# EAGLE library part JST_PH_7 (library stepOSP)
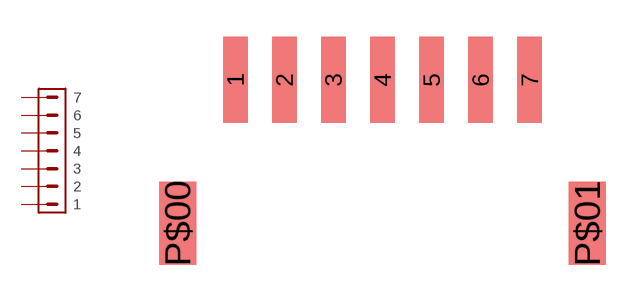
[diagram p20: symbol with the pads of PH_CON_7; footprint PH_CON_7]

Designator prefix -

## JST_PH_7  [PH_CON_7]
1  1
2  2
3  3
4  4
5  5
6  6
7  7

## Footprint PH_CON_7 (pad centres in mm)
smd 1 x 3.5: 1 -6,7.45; 2 -4,7.45; 3 -2,7.45; 4 0,7.45; 5 2,7.45; 6 4,7.45; 7 6,7.45
smd 1.5 x 3.4: P$00 -8.35,1.6; P$01 8.35,1.6